# Altium integrated library various.IntLib: 8 symbols
Pins are listed as number, name and electrical type; pins without a type are passive.

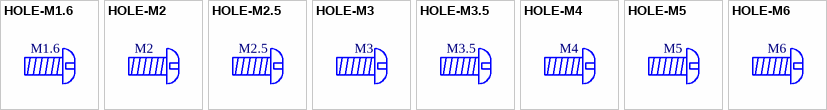
[diagram p0: symbols HOLE-M1.6 to HOLE-M6]

## HOLE-M1.6
designator FD?, comment M1.6
Screw hole M1.6; RevisionDate: 11-01-2018; Value: *; Name: M1.6
footprint M1.6-NUT

## HOLE-M2
designator FD?, comment M2
Screw hole M2; RevisionDate: 11-01-2018; Value: *; Name: M2
footprint M2.0-NUT

## HOLE-M2.5
designator FD?, comment M2.5
Screw hole M2.5; RevisionDate: 11-01-2018; Value: *; Name: M2.5
footprint M2.5-NUT

## HOLE-M3
designator FD?, comment M3
Screw hole M3; RevisionDate: 11-01-2018; Value: *; Name: M3
footprint M3.0-NUT

## HOLE-M3.5
designator FD?, comment M3.5
Screw hole M3.5; RevisionDate: 11-01-2018; Value: *; Name: M3.5
footprint M3.5-NUT

## HOLE-M4
designator FD?, comment M4
Screw hole M4; RevisionDate: 11-01-2018; Value: *; Name: M4
footprint M4.0-NUT

## HOLE-M5
designator FD?, comment M5
Screw hole M5; RevisionDate: 11-01-2018; Value: *; Name: M5
footprint M5.0-NUT

## HOLE-M6
designator FD?, comment M6
Screw hole M6; RevisionDate: 11-01-2018; Value: *; Name: M6
footprint M6.0-NUT